# Altium schematic symbol library SN74CBT16233DGGR.SchLib: 2 symbols
Pins are listed as number, name and electrical type; pins without a type are passive.

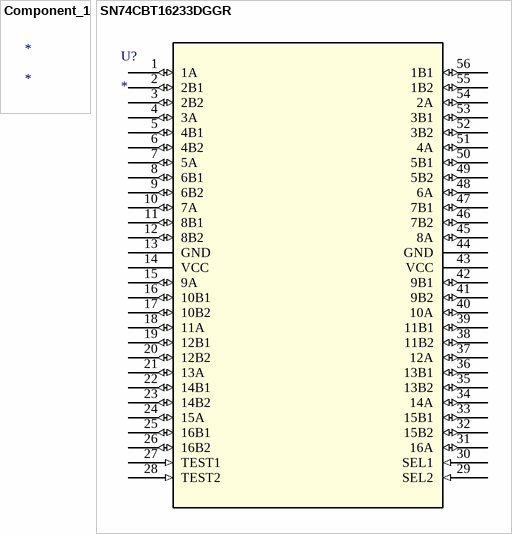
[diagram p0: symbols Component_1 to SN74CBT16233DGGR]

## Component_1
designator *

## SN74CBT16233DGGR
designator U?
No Description Available; Mfr_Name: Texas Instruments; RefDes: RefDes; Type: Type
footprint DGG56
pins: 1 1A (io), 2 2B1 (io), 3 2B2 (io), 4 3A (io), 5 4B1 (io), 6 4B2 (io), 7 5A (io), 8 6B1 (io), 9 6B2 (io), 10 7A (io), 11 8B1 (io), 12 8B2 (io), 13 GND (power), 14 VCC (power), 15 9A (io), 16 10B1 (io), 17 10B2 (io), 18 11A (io), 19 12B1 (io), 20 12B2 (io), 21 13A (io), 22 14B1 (io), 23 14B2 (io), 24 15A (io), 25 16B1 (io), 26 16B2 (io), 27 TEST1 (in), 28 TEST2 (in), 29 SEL2 (in), 30 SEL1 (in), 31 16A (io), 32 15B2 (io), 33 15B1 (io), 34 14A (io), 35 13B2 (io), 36 13B1 (io), 37 12A (io), 38 11B2 (io), 39 11B1 (io), 40 10A (io), 41 9B2 (io), 42 9B1 (io), 43 VCC (power), 44 GND (power), 45 8A (io), 46 7B2 (io), 47 7B1 (io), 48 6A (io), 49 5B2 (io), 50 5B1 (io), 51 4A (io), 52 3B2 (io), 53 3B1 (io), 54 2A (io), 55 1B2 (io), 56 1B1 (io)